# Altium footprint library LM27762DSSR.PcbLib: 1 footprints
Each footprint in its own frame and in the unit in brackets; x right, y up, seen from the top. Pads: shape width x height; smd on the part's side, far side on the other; paste and mask are expansions set on the pad; w line width, h text height; cw(c..) or ccw(c..) is an arc to the next point about the centre after c.
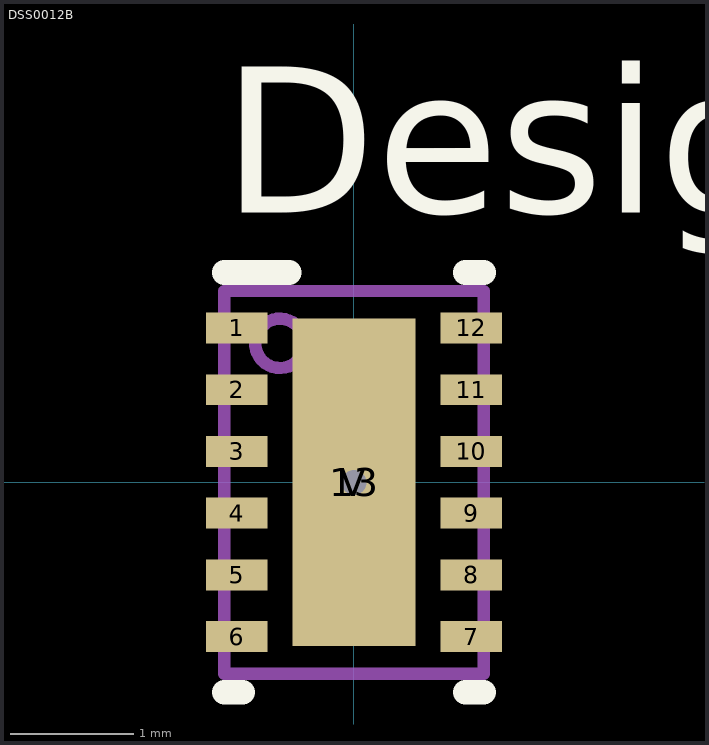
[diagram p0: the footprint, top view; thin cyan lines are the x and y axes]

## DSS0012B [mm]
pads (14):
  rect 0.5x0.25 smd paste+0 mask+0.051: 1(-0.95,1.25) 2(-0.95,0.75) 3(-0.95,0.25) 4(-0.95,-0.25) 5(-0.95,-0.75) 6(-0.95,-1.25) 7(0.95,-1.25) 8(0.95,-0.75) 9(0.95,-0.25) 10(0.95,0.25) 11(0.95,0.75) 12(0.95,1.25)
  rect 1x2.65 smd paste-0.5 mask+0.051: 13(0,0)
  round 0.5 / inner round 1.524 / far side round 0.5 hole 0.203 paste-0.25 mask+0.051: V(0,0)
Top Overlay:
  lines w0.2: -1.05,-1.7 -0.9,-1.7 ; -1.05,1.7 -0.525,1.7 ; 0.9,-1.7 1.05,-1.7 ; 0.9,1.7 1.05,1.7
  text "Designator9" at -1.067,2.184 h1.27
Top Paste:
  region: -0.473,0.142 -0.474,0.152 -0.474,1.216 -0.473,1.226 -0.471,1.236 -0.466,1.245 -0.459,1.253 -0.451,1.259 -0.442,1.264 -0.432,1.267 -0.422,1.268 0.422,1.268 0.432,1.267 0.442,1.264 0.451,1.259 0.459,1.253 0.466,1.245 0.471,1.236 0.473,1.226 0.474,1.216 0.474,0.152 0.473,0.142 0.471,0.132 0.466,0.123 0.459,0.115 0.451,0.109 0.442,0.104 0.432,0.101 0.422,0.1 -0.422,0.1 -0.432,0.101 -0.442,0.104 -0.451,0.109 -0.459,0.115 -0.466,0.123 -0.471,0.132
  region: -0.473,-1.226 -0.474,-1.216 -0.474,-0.152 -0.473,-0.142 -0.471,-0.132 -0.466,-0.123 -0.459,-0.115 -0.451,-0.109 -0.442,-0.104 -0.432,-0.101 -0.422,-0.1 0.422,-0.1 0.432,-0.101 0.442,-0.104 0.451,-0.109 0.459,-0.115 0.466,-0.123 0.471,-0.132 0.473,-0.142 0.474,-0.152 0.474,-1.216 0.473,-1.226 0.471,-1.236 0.466,-1.245 0.459,-1.253 0.451,-1.259 0.442,-1.264 0.432,-1.267 0.422,-1.268 -0.422,-1.268 -0.432,-1.267 -0.442,-1.264 -0.451,-1.259 -0.459,-1.253 -0.466,-1.245 -0.471,-1.236
Mechanical 13:
  circle w0.1: c-0.6,1.125 r0.2
  lines w0.1: -1.05,-1.55 -1.05,1.55 1.05,1.55 1.05,-1.55 -1.05,-1.55